# Altium schematic symbol library Crystal_4_pin.SchLib: 1 symbol
Pins are listed as number, name and electrical type; pins without a type are passive.

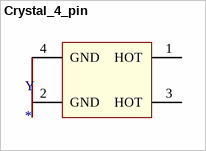
[diagram p0: symbol Crystal_4_pin]

## Crystal_4_pin
designator Y
footprint OSCCC320X250X60N
pins: 1 HOT, 2 GND, 3 HOT, 4 GND